# Altium schematic symbol library LM1117IMP-5.0-NOPB.SchLib: 1 symbol
Pins are listed as number, name and electrical type; pins without a type are passive.

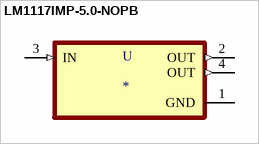
[diagram p0: symbol LM1117IMP-5.0-NOPB]

## LM1117IMP-5.0-NOPB
designator U
MF: Texas Instruments; MP: LM1117IMP50; Value: *; SnapEDA_Link: https://www.snapeda.com/parts/LM1117IMP50/Texas%20Instruments/view-part/77914/?ref=snap; Package: SOT-223 Texas Instruments; Availability: Unavailable; Price: None
footprint SOT230P700X180-4N
pins: 1 GND (power), 2 OUT (out), 3 IN (in), 4 OUT (out)